# EAGLE library part ATXMEGA128A1 (library 1_Robo-Lib)
MICROCONTROLLER Features High-performance, Low-power 8/16-bit AVR XMEGA Microcontroller Non-Volatile Program and Data Memories - 64K - 384K Bytes of In-System Self-Programmable Flash - 4K - 8K Bytes Boot Section with Independent Lock Bits - 2 KB - 4 KB EEPROM - 4 KB - 32 KB Internal SRAM External Bus Interface for up to 16M bytes SRAM External Bus Interface for up to 128M bit SDRAM Peripheral Features - Four-channel DMA Controller with support for external requests - Eight-channel Event System - Eight 16-bit Timer/Counters Four Timer/Counters with 4 Output Compare or Input Capture channels Four Timer/Counters with 2 Output Compare or Input Capture channels High-Resolution Extension on all Timer/Counters Advanced Waveform Extension on two Timer/Counters - Eight USARTs IrDA modulation/demodulation for one USART - Four Two-Wire Interfaces with dual address match (I2C and SMBus compatible) - Four SPI (Serial Peripheral Interface) peripherals - AES and DES Crypto Engine - 16-bit Real Time Counter with separate Oscillator - Two Eight-channel, 12-bit, 2 Msps Analog to Digital Converters - Two Two-channel, 12-bit, 1 Msps Digital to Analog Converters - Four Analog Comparators with Window compare function - External Interrupts on all General Purpose I/O pins - Programmable Watchdog Timer with Separate On-chip Ultra Low Power Oscillator Special Microcontroller Features - Power-on Reset and Programmable Brown-out Detection - Internal and External Clock Options with PLL and Prescaler - Programmable Multi-level Interrupt Controller - Sleep Modes: Idle, Power-down, Standby, Power-save, Extended Standby - Advanced Programming, Test and Debugging Interfaces JTAG (IEEE 1149.1 Compliant) Interface for programming, test and debugging PDI (Program and Debug Interface) for programming and debugging I/O and Packages - 78 Programmable I/O Lines - 100 - lead TQFP - 100 - ball CBGA - 100 - ball VFBGA Operating Voltage - 1.6 - 3.6V Speed performance - 0 - 12 MHz @ 1.6 - 3.6V - 0 - 32 MHz @ 2.7 - 3.6V Drawn by Dipl.-Ing. (FH) Robert Siegler Created: 27.05.09
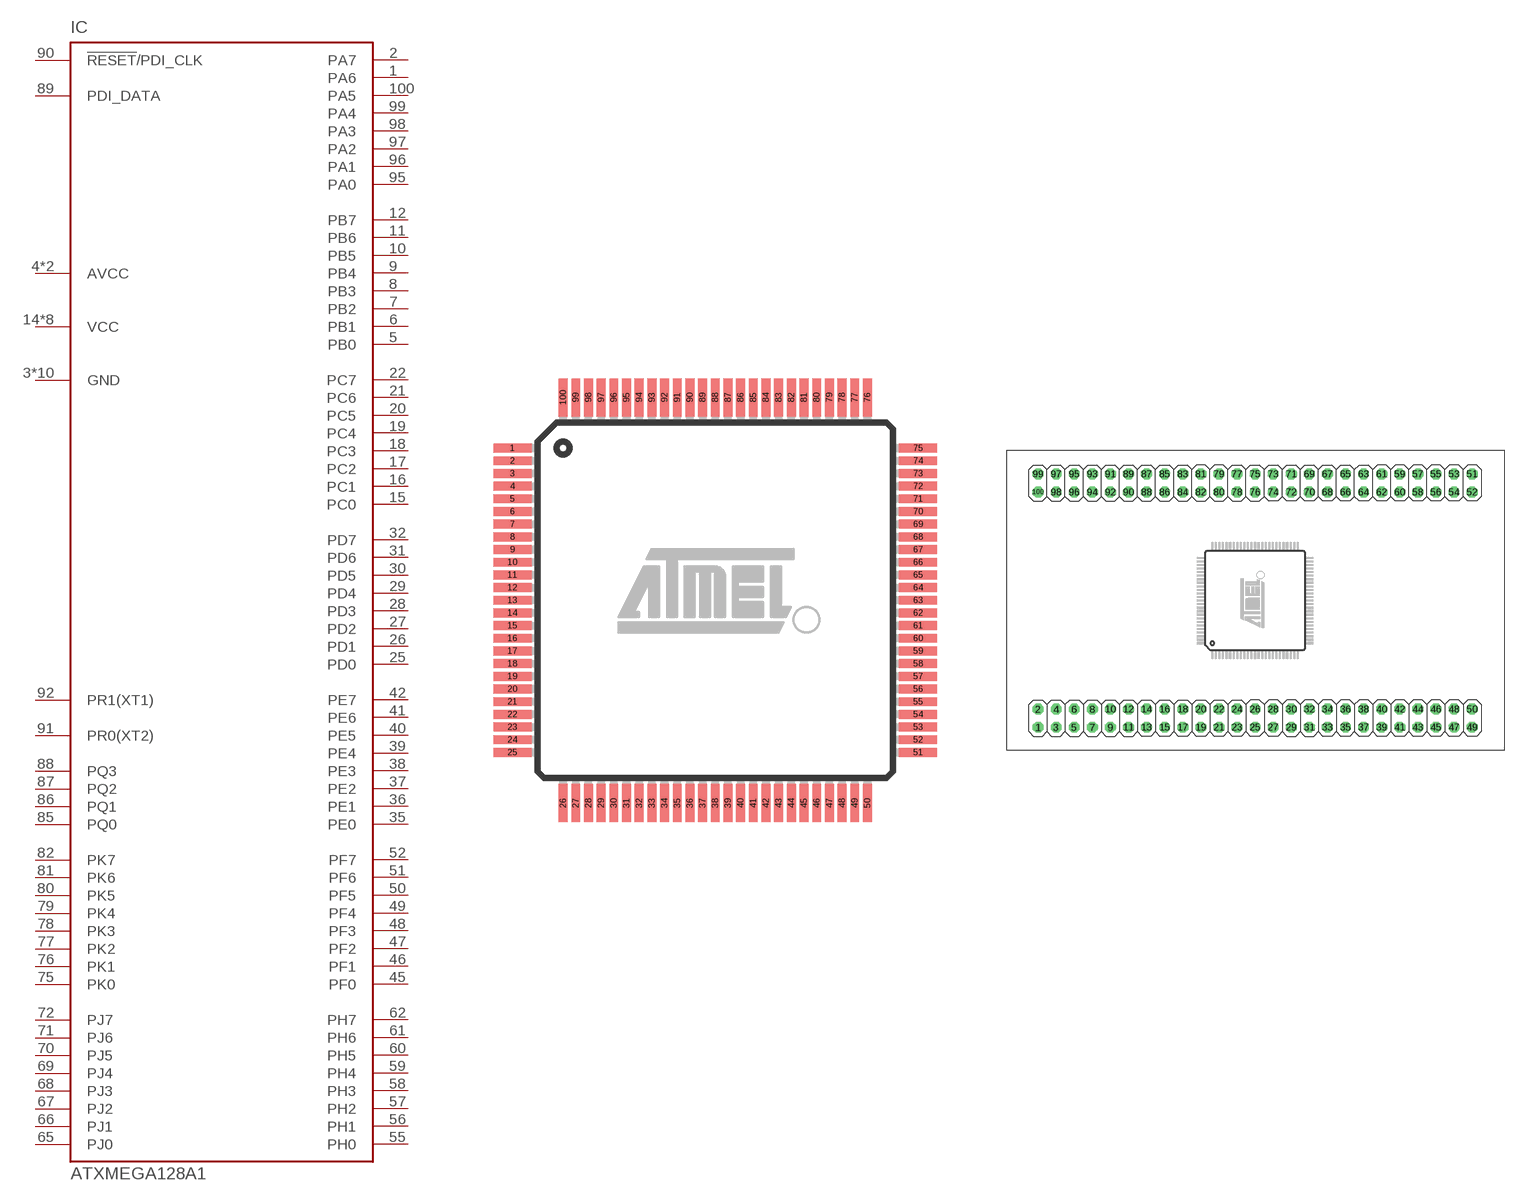
[diagram p17: symbol with the pads of TQFP100; footprints TQFP100, TQFP100_BREAKOUT_V1]

Designator prefix IC

## ATXMEGA128A1 (OC_FARNELL: unknown; OC_NEWARK: unknown)  [TQFP100]
1  PA6
2  PA7
3  GND  pwr
4  AVCC  pwr
5  PB0
6  PB1
7  PB2
8  PB3
9  PB4
10  PB5
11  PB6
12  PB7
13  GND  pwr
14  VCC  pwr
15  PC0
16  PC1
17  PC2
18  PC3
19  PC4
20  PC5
21  PC6
22  PC7
23  GND  pwr
24  VCC  pwr
25  PD0
26  PD1
27  PD2
28  PD3
29  PD4
30  PD5
31  PD6
32  PD7
33  GND  pwr
34  VCC  pwr
35  PE0
36  PE1
37  PE2
38  PE3
39  PE4
40  PE5
41  PE6
42  PE7
43  GND  pwr
44  VCC  pwr
45  PF0
46  PF1
47  PF2
48  PF3
49  PF4
50  PF5
51  PF6
52  PF7
53  GND  pwr
54  VCC  pwr
55  PH0
56  PH1
57  PH2
58  PH3
59  PH4
60  PH5
61  PH6
62  PH7
63  GND  pwr
64  VCC  pwr
65  PJ0
66  PJ1
67  PJ2
68  PJ3
69  PJ4
70  PJ5
71  PJ6
72  PJ7
73  GND  pwr
74  VCC  pwr
75  PK0
76  PK1
77  PK2
78  PK3
79  PK4
80  PK5
81  PK6
82  PK7
83  VCC  pwr
84  GND  pwr
85  PQ0
86  PQ1
87  PQ2
88  PQ3
89  PDI_DATA
90  !RESET!/PDI_CLK  in
91  PR0(XT2)
92  PR1(XT1)
93  GND  pwr
94  AVCC  pwr
95  PA0
96  PA1
97  PA2
98  PA3
99  PA4
100  PA5

## ATXMEGA128A1_BO1_DONOTUSE  [TQFP100_BREAKOUT_V1]
1  GND  pwr
2  AVCC  pwr
3  PA0
4  PA1
5  PA2
6  PA3
7  PA4
8  PA5
9  PA6
10  PA7
11  GND  pwr
12  VCC  pwr
13  PB0
14  PB1
15  PB2
16  PB3
17  PB4
18  PB5
19  PB6
20  PB7
21  GND  pwr
22  VCC  pwr
23  PC0
24  PC1
25  PC2
26  PC3
27  PC4
28  PC5
29  PC6
30  PC7
31  GND  pwr
32  VCC  pwr
33  PD0
34  PD1
35  PD2
36  PD3
37  PD4
38  PD5
39  PD6
40  PD7
41  GND  pwr
42  VCC  pwr
43  PE0
44  PE1
45  PE2
46  PE3
47  PE4
48  PE5
49  PE6
50  PE7
51  GND  pwr
52  VCC  pwr
53  PF0
54  PF1
55  PF2
56  PF3
57  PF4
58  PF5
59  PF6
60  PF7
61  GND  pwr
62  VCC  pwr
63  PH0
64  PH1
65  PH2
66  PH3
67  PH4
68  PH5
69  PH6
70  PH7
71  GND  pwr
72  VCC  pwr
73  PJ0
74  PJ1
75  PJ2
76  PJ3
77  PJ4
78  PJ5
79  PJ6
80  PJ7
81  GND  pwr
82  VCC  pwr
83  PK0
84  PK1
85  PK2
86  PK3
87  PK4
88  PK5
89  PK6
90  PK7
91  GND  pwr
92  VCC  pwr
93  PQ0
94  PQ1
95  PQ2
96  PQ3
97  PDI_DATA
98  !RESET!/PDI_CLK  in
99  PR0(XT2)
100  PR1(XT1)

## Footprint TQFP100 (pad centres in mm)
100-lead Thin Quad Flat Pack Package
smd 1.5 x 0.35: 1 -8,6; 2 -8,5.5; 3 -8,5; 4 -8,4.5; 5 -8,4; 6 -8,3.5; 7 -8,3; 8 -8,2.5; 9 -8,2; 10 -8,1.5; 11 -8,1; 12 -8,0.5; 13 -8,0; 14 -8,-0.5; 15 -8,-1; 16 -8,-1.5; 17 -8,-2; 18 -8,-2.5; 19 -8,-3; 20 -8,-3.5; 21 -8,-4; 22 -8,-4.5; 23 -8,-5; 24 -8,-5.5; 25 -8,-6; 51 8,-6; 52 8,-5.5; 53 8,-5; 54 8,-4.5; 55 8,-4; 56 8,-3.5; 57 8,-3; 58 8,-2.5; 59 8,-2; 60 8,-1.5; 61 8,-1; 62 8,-0.5; 63 8,0; 64 8,0.5; 65 8,1; 66 8,1.5; 67 8,2; 68 8,2.5; 69 8,3; 70 8,3.5; 71 8,4; 72 8,4.5; 73 8,5; 74 8,5.5; 75 8,6
smd 0.35 x 1.5: 26 -6,-8; 27 -5.5,-8; 28 -5,-8; 29 -4.5,-8; 30 -4,-8; 31 -3.5,-8; 32 -3,-8; 33 -2.5,-8; 34 -2,-8; 35 -1.5,-8; 36 -1,-8; 37 -0.5,-8; 38 0,-8; 39 0.5,-8; 40 1,-8; 41 1.5,-8; 42 2,-8; 43 2.5,-8; 44 3,-8; 45 3.5,-8; 46 4,-8; 47 4.5,-8; 48 5,-8; 49 5.5,-8; 50 6,-8; 76 6,8; 77 5.5,8; 78 5,8; 79 4.5,8; 80 4,8; 81 3.5,8; 82 3,8; 83 2.5,8; 84 2,8; 85 1.5,8; 86 1,8; 87 0.5,8; 88 0,8; 89 -0.5,8; 90 -1,8; 91 -1.5,8; 92 -2,8; 93 -2.5,8; 94 -3,8; 95 -3.5,8; 96 -4,8; 97 -4.5,8; 98 -5,8; 99 -5.5,8; 100 -6,8

## Footprint TQFP100_BREAKOUT_V1 (pad centres in mm)
Achtung Dieses Package ist nicht 100% komatibel mit dem Bisherigen.
drill 1.016 octagon: 1 -30.48,-17.78; 2 -30.48,-15.24; 3 -27.94,-17.78; 4 -27.94,-15.24; 5 -25.4,-17.78; 6 -25.4,-15.24; 7 -22.86,-17.78; 8 -22.86,-15.24; 9 -20.32,-17.78; 10 -20.32,-15.24; 11 -17.78,-17.78; 12 -17.78,-15.24; 13 -15.24,-17.78; 14 -15.24,-15.24; 15 -12.7,-17.78; 16 -12.7,-15.24; 17 -10.16,-17.78; 18 -10.16,-15.24; 19 -7.62,-17.78; 20 -7.62,-15.24; 21 -5.08,-17.78; 22 -5.08,-15.24; 23 -2.54,-17.78; 24 -2.54,-15.24; 25 0,-17.78; 26 0,-15.24; 27 2.54,-17.78; 28 2.54,-15.24; 29 5.08,-17.78; 30 5.08,-15.24; 31 7.62,-17.78; 32 7.62,-15.24; 33 10.16,-17.78; 34 10.16,-15.24; 35 12.7,-17.78; 36 12.7,-15.24; 37 15.24,-17.78; 38 15.24,-15.24; 39 17.78,-17.78; 40 17.78,-15.24; 41 20.32,-17.78; 42 20.32,-15.24; 43 22.86,-17.78; 44 22.86,-15.24; 45 25.4,-17.78; 46 25.4,-15.24; 47 27.94,-17.78; 48 27.94,-15.24; 49 30.48,-17.78; 50 30.48,-15.24; 51 30.48,17.78; 52 30.48,15.24; 53 27.94,17.78; 54 27.94,15.24; 55 25.4,17.78; 56 25.4,15.24; 57 22.86,17.78; 58 22.86,15.24; 59 20.32,17.78; 60 20.32,15.24; 61 17.78,17.78; 62 17.78,15.24; 63 15.24,17.78; 64 15.24,15.24; 65 12.7,17.78; 66 12.7,15.24; 67 10.16,17.78; 68 10.16,15.24; 69 7.62,17.78; 70 7.62,15.24; 71 5.08,17.78; 72 5.08,15.24; 73 2.54,17.78; 74 2.54,15.24; 75 0,17.78; 76 0,15.24; 77 -2.54,17.78; 78 -2.54,15.24; 79 -5.08,17.78; 80 -5.08,15.24; 81 -7.62,17.78; 82 -7.62,15.24; 83 -10.16,17.78; 84 -10.16,15.24; 85 -12.7,17.78; 86 -12.7,15.24; 87 -15.24,17.78; 88 -15.24,15.24; 89 -17.78,17.78; 90 -17.78,15.24; 91 -20.32,17.78; 92 -20.32,15.24; 93 -22.86,17.78; 94 -22.86,15.24; 95 -25.4,17.78; 96 -25.4,15.24; 97 -27.94,17.78; 98 -27.94,15.24; 99 -30.48,17.78; 100 -30.48,15.24